# Altium schematic symbol library SSW-120-02-T-D.SchLib: 1 symbol
Pins are listed as number, name and electrical type; pins without a type are passive.

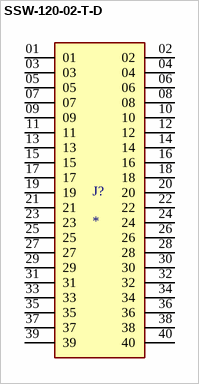
[diagram p0: symbol SSW-120-02-T-D]

## SSW-120-02-T-D
designator J?
40 Position Receptacle Connector 0.100 (2.54mm) Through Hole Tin; MF: Samtec Inc.; MP: SSW-120-02-T-D; SnapEDA_Link: https://www.snapeda.com/parts/SSW-120-02-T-D/Samtec+Inc./view-part/?ref=snap; Package: None; Value: *; Check_prices: https://www.snapeda.com/parts/SSW-120-02-T-D/Samtec+Inc./view-part/?ref=eda
footprint SAMTEC_SSW-120-02-T-D
pins: 01, 02, 03, 04, 05, 06, 07, 08, 09, 10, 11, 12, 13, 14, 15, 16, 17, 18, 19, 20, 21, 22, 23, 24, 25, 26, 27, 28, 29, 30, 31, 32, 33, 34, 35, 36, 37, 38, 39, 40